# Altium schematic symbol library Devices.SchLib: 22 symbols
Pins are listed as number, name and electrical type; pins without a type are passive.

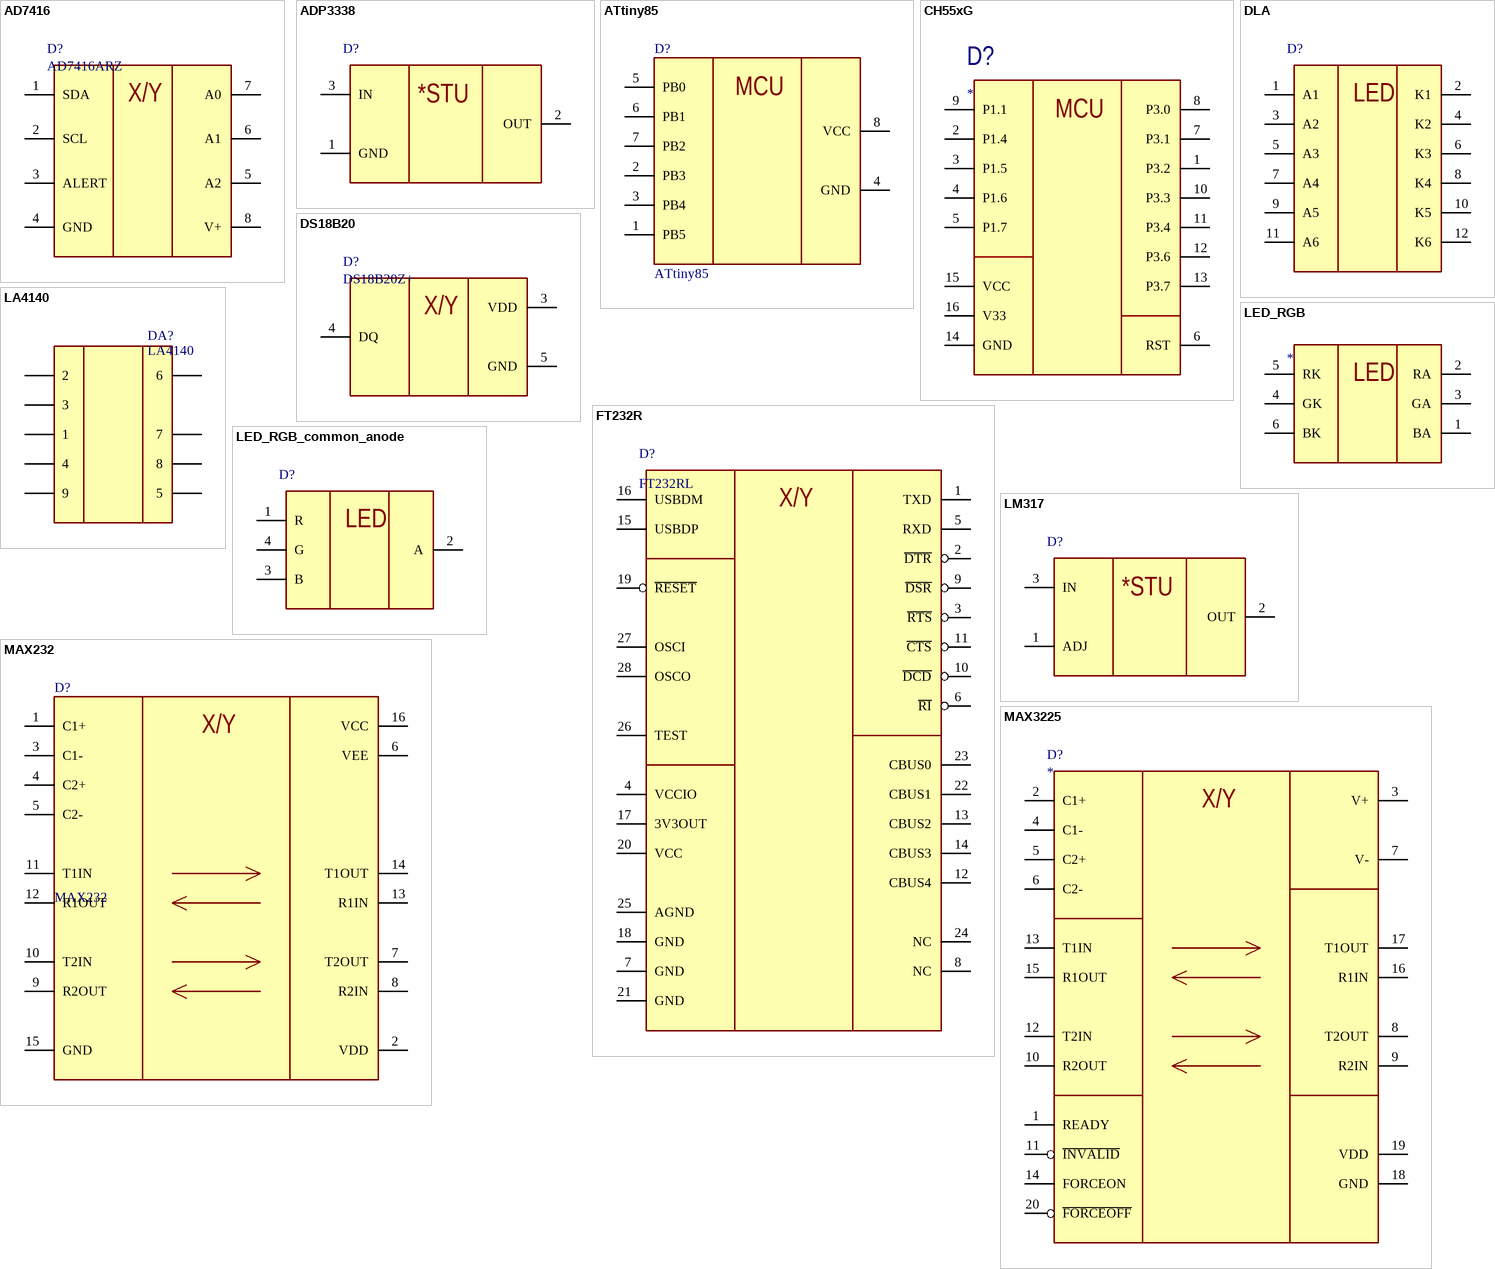
[diagram p0: symbols AD7416 to MAX3225]

## AD7416
designator D?, comment AD7416ARZ
10-Bit Digital Temperature Sensor; Manufacturer: Analog Devices; ComponentLink1Description: Datasheet; ComponentLink1URL: *
footprint SO8_M (SOIC, 8-Leads, Body 4.9x3.9mm, Pitch 1.27mm, IPC Low Density)
pins: 1 SDA "Serial data", 2 SCL "Serial clock", 3 ALERT "Overtemperature alert", 4 GND (power) "Ground", 5 A2 "Address select", 6 A1 "Address select", 7 A0 "Address select", 8 V+ "Power"
text: X/Y

## ADP3338
designator D?, comment ADP3338AKC-3.3-RL7  (value not drawn)
High Accuracy, Ultralow IQ, 1 A, anyCAP® Low Dropout Regulator; Manufacturer: Analog Devices; ComponentLink1Description: Datasheet; ComponentLink1URL: *
footprint SOT223_M (SOT223, 4-Leads, Body 6.5x3.5mm, Pitch 2.3mm, Lead Span 7mm, IPC Low Density)
pins: 1 GND (power) "Ground", 2 OUT (power) "Regulator output", 3 IN (power) "Regulator input"
text: *STU

## ATtiny85
designator D?
Low Power tinyAVR® 8-Bit Microcontroller, 8K Flash Memory, 20MHz; Manufacturer: Atmel; ComponentLink1Description: Datasheet; ComponentLink1URL: *
footprint SO8_M (SOIC, 8-Leads, Body 4.9x3.9mm, Pitch 1.27mm, IPC Low Density)
footprint SOP-8 (2.54 mm) (SOP; 8 Leads; Row Spacing 7.62 mm; Pitch 2.54 mm)
pins: 1 PB5, 2 PB3, 3 PB4, 4 GND (power), 5 PB0, 6 PB1, 7 PB2, 8 VCC (power)
text: MCU

## CH55xG
designator D?
8-bit USB microcontroller; Manufacturer: WCH(Jiangsu Qin Heng); Datasheet: *
footprint SO-16 _150mil
pins: 1 P3.2, 2 P1.4, 3 P1.5, 4 P1.6, 5 P1.7, 6 RST, 7 P3.1, 8 P3.0, 9 P1.1, 10 P3.3, 11 P3.4, 12 P3.6, 13 P3.7, 14 GND (power), 15 VCC (power), 16 V33 (power)
text: MCU

## DLA
designator D?  (value not drawn)
20mm BIG LAMP; Manufacturer: Kingbright; ComponentLink1Description: Datasheet; ComponentLink1URL: *
footprint DLA/6GD (20mm BIG LAMP)
footprint DLA/6ID (20mm BIG LAMP)
footprint DLA/6YD (20mm BIG LAMP)
pins: 1 A1 "Anode 1", 2 K1 "Cathode 1", 3 A2 "Anode 2", 4 K2 "Cathode 2", 5 A3 "Anode 3", 6 K3 "Cathode 3", 7 A4 "Anode 4", 8 K4 "Cathode 4", 9 A5 "Anode 5", 10 K5 "Cathode 5", 11 A6 "Anode 6", 12 K6 "Cathode 6"
text: LED

## DS18B20
designator D?, comment DS18B20Z+
Programmable Resolution 1-Wire Digital Thermometer; Manufacturer: Maxim Integrated; ComponentLink1Description: Datasheet; ComponentLink1URL: *
footprint SO8_M (SOIC, 8-Leads, Body 4.9x3.9mm, Pitch 1.27mm, IPC Low Density)
pins: 3 VDD "Power", 4 DQ "Data In/Out", 5 GND (power) "Ground"
text: X/Y

## FT232R
designator D?, comment FT232RL
USB UART Asynchronous Serial Data Transfer Chip, SSOP-28, Tape and Reel; Manufacturer: FTDI; ComponentLink1Description: Datasheet; ComponentLink1URL: *
footprint SSOP-28_M (SOP, 28-Leads, Body 10.2x5.3mm, Pitch 0.65mm, IPC Low Density)
pins: 1 TXD, 2 ~{DTR}, 3 ~{RTS}, 4 VCCIO (power), 5 RXD, 6 ~{RI}, 7 GND (power), 8 NC, 9 ~{DSR}, 10 ~{DCD}, 11 ~{CTS}, 12 CBUS4, 13 CBUS2, 14 CBUS3, 15 USBDP, 16 USBDM, 17 3V3OUT (power), 18 GND (power), 19 ~{RESET}, 20 VCC (power), 21 GND (power), 22 CBUS1, 23 CBUS0, 24 NC, 25 AGND (power), 26 TEST, 27 OSCI, 28 OSCO
text: X/Y

## LA4140
designator DA?
0,5 W AF Amplifier; Manufacturer: *; ComponentLink1Description: Datasheet; ComponentLink1URL: *
footprint SIP9 (TO, Thru-Hole, Vertical, Heatsink Mounted; 9 In-Line Leads; Pitch 2.54 mm)
pins: 1, 2, 3, 4, 5 (power), 6, 7 (power), 8, 9

## LED_RGB
designator D?
Surface mount smd LED; Manufacturer: *; ComponentLink1Description: Datasheet; ComponentLink1URL: *
footprint smd_50x50 (Footprint smd50x50)
pins: 1 BA "Anode blue LED", 2 RA "Anode red LED", 3 GA "Anode green LED", 4 GK "Cathode green LED", 5 RK "Cathode red LED", 6 BK "Cathode blue LED"
text: LED

## LED_RGB_common_anode
designator D?  (value not drawn)
Surface mount smd LED with common anode; Manufacturer: *; ComponentLink1Description: Datasheet; ComponentLink1URL: *
footprint smd_3.5x2.8
pins: 1 R "Cathode red LED", 2 A "Anode", 3 B "Cathode blue LED", 4 G "Cathode green LED"
text: LED

## LM317
designator D?  (value not drawn)
3-Terminal Adjustable Regulator; Manufacturer: *; ComponentLink1Description: Datasheet; ComponentLink1URL: *
footprint SOT223_M (SOT223, 4-Leads, Body 6.5x3.5mm, Pitch 2.3mm, Lead Span 7mm, IPC Low Density)
pins: 1 ADJ "Output voltage adjustment pin", 2 OUT (power) "Regulator output", 3 IN (power) "Regulator input"
text: *STU

## MAX232
designator D?
+5V Powered RS-232 Driver/Receiver; Manufacturer: *; ComponentLink1Description: Datasheet; ComponentLink1URL: *
footprint SOP-16 (2.54 mm) (SOP; 16 Leads; Row Spacing 7.62 mm; Pitch 2.54 mm)
pins: 1 C1+, 2 VDD (power), 3 C1-, 4 C2+, 5 C2-, 6 VEE (power), 7 T2OUT, 8 R2IN, 9 R2OUT, 10 T2IN, 11 T1IN, 12 R1OUT, 13 R1IN, 14 T1OUT, 15 GND (power), 16 VCC (power)
text: X/Y

## MAX3225
designator D?
±15kV ESD-Protected, 1µA, 1Mbps, 3.0V to 5.5V,  RS-232 Transceivers with AutoShutdown Plus; Manufacturer: Maxim Integrated; ComponentLink1Description: Datasheet; ComponentLink1URL: *
footprint TSSOP-20 (TSSOP, Plastic; 20 Leads; Body Width 5.3 mm; Pitch 0.65 mm)
pins: 1 READY, 2 C1+, 3 V+ (power), 4 C1-, 5 C2+, 6 C2-, 7 V- (power), 8 T2OUT, 9 R2IN, 10 R2OUT, 11 ~{INVALID}, 12 T2IN, 13 T1IN, 14 FORCEON, 15 R1OUT, 16 R1IN, 17 T1OUT, 18 GND (power), 19 VDD (power), 20 ~{FORCEOFF}
text: X/Y

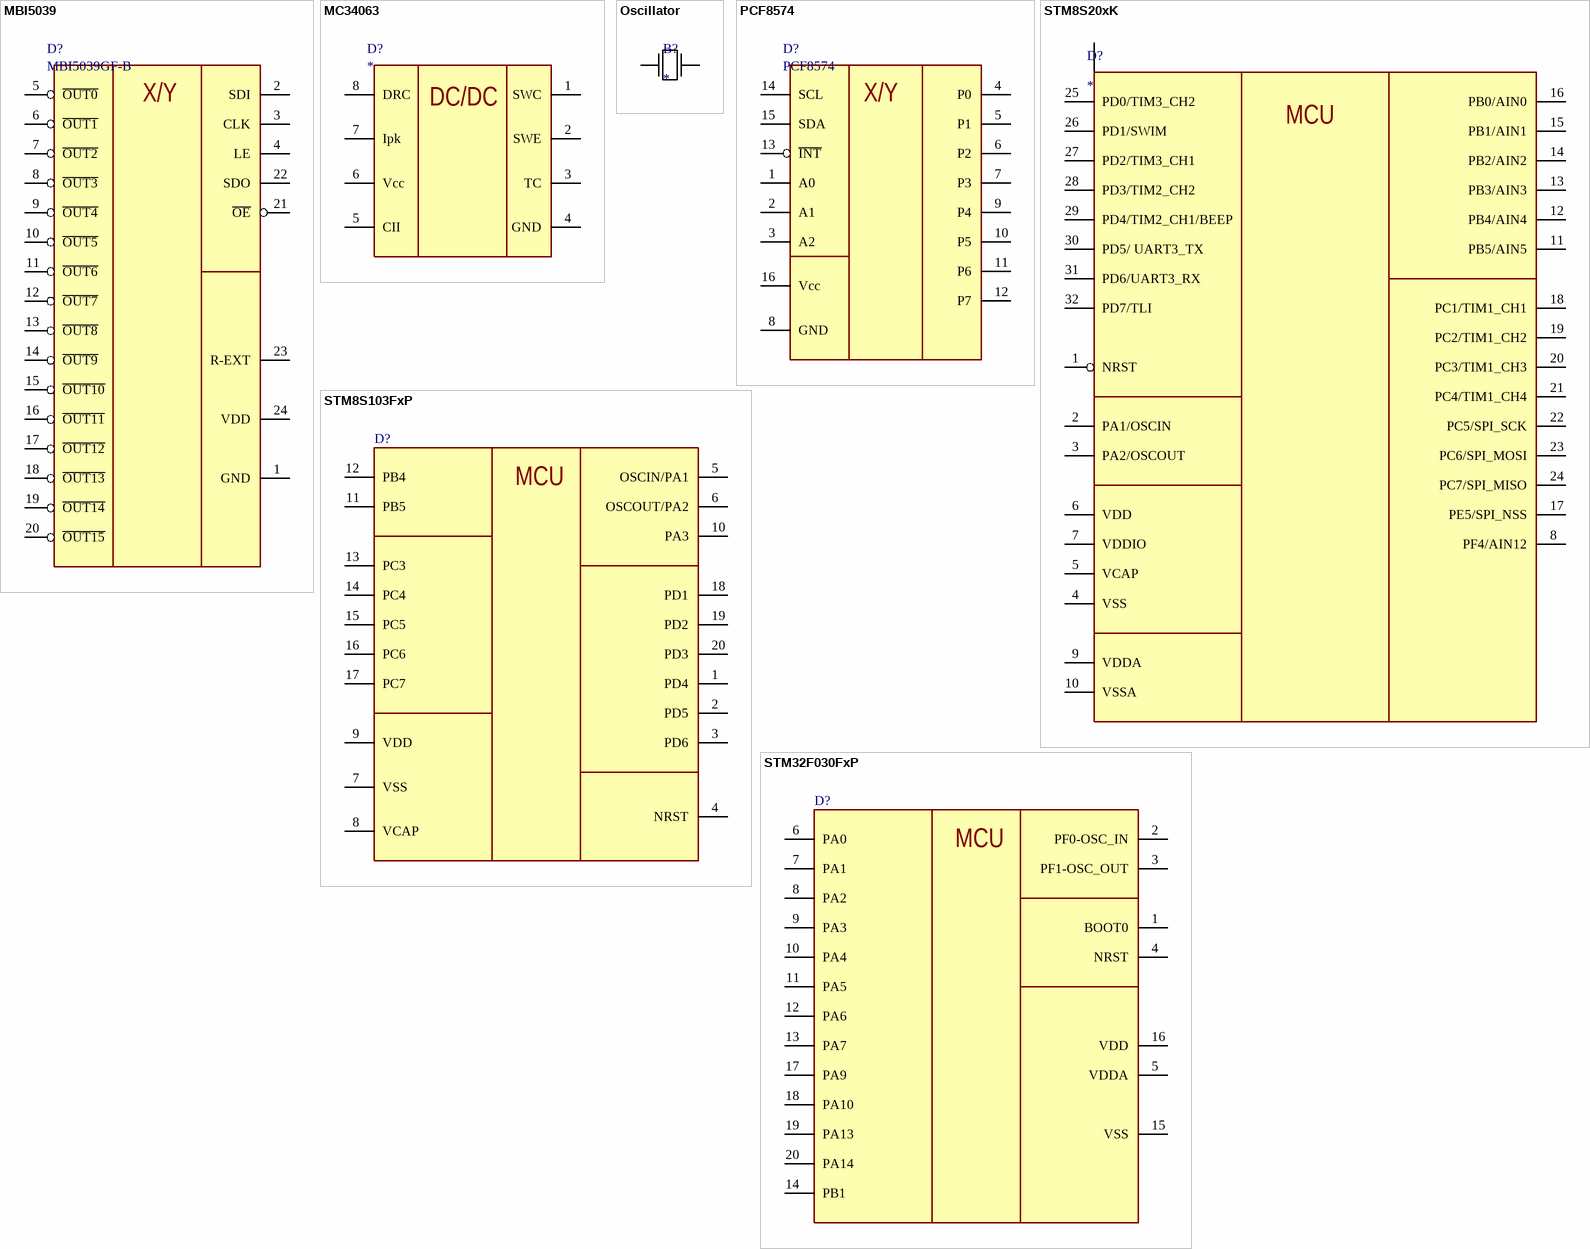
[diagram p1: symbols MBI5039 to STM32F030FxP]

## MBI5039
designator D?, comment MBI5039GF-B
16-Channel Constant Current LED Sink Driver with Silent Error Detection and Current Gain; Manufacturer: Macroblock; ComponentLink1Description: Datasheet; ComponentLink1URL: *
footprint SOP24L (SOP, Plastic; 24 Leads; Body Width 6 mm; Pitch 1 mm)
pins: 1 GND (power) "Ground", 2 SDI "Serial-data input to the shift register", 3 CLK "Clock input terminal used to shift data on rising edge and carries command   information when LE is asserted", 4 LE "Data strobe terminal and asserting command with adequate CLK pulses", 5 ~{OUT0} "Constant current output terminal 0", 6 ~{OUT1} "Constant current output terminal 1", 7 ~{OUT2} "Constant current output terminal 2", 8 ~{OUT3} "Constant current output terminal 3", 9 ~{OUT4} "Constant current output terminal 4", 10 ~{OUT5} "Constant current output terminal 5", 11 ~{OUT6} "Constant current output terminal 6", 12 ~{OUT7} "Constant current output terminal 7", 13 ~{OUT8} "Constant current output terminal 8", 14 ~{OUT9} "Constant current output terminal 9", 15 ~{OUT10} "Constant current output terminal 10", 16 ~{OUT11} "Constant current output terminal 11", 17 ~{OUT12} "Constant current output terminal 12", 18 ~{OUT13} "Constant current output terminal 13", 19 ~{OUT14} "Constant current output terminal 14", 20 ~{OUT15} "Constant current output terminal 15", 21 ~{OE} "Enable output drivers to sink current", 22 SDO "Serial-data output to the SDI of the following driver IC", 23 R-EXT "Input terminal used for connecting an external resistor in order to set up the current   level of all output ports", 24 VDD (power) "Supply"
text: X/Y

## MC34063
designator D?
DC-DC Converter control circuits; Manufacturer: *; ComponentLink1Description: Datasheet; ComponentLink1URL: *
footprint SO8_M (SOIC, 8-Leads, Body 4.9x3.9mm, Pitch 1.27mm, IPC Low Density)
pins: 1 SWC "Switch collector", 2 SWE "Switch emitter", 3 TC "Timing capacitor", 4 GND "Ground", 5 CII "Comparator inverting input", 6 Vcc "Supply", 7 Ipk "Ipk sense", 8 DRC "Drive collector"
text: DC/DC

## Oscillator
designator B?
Crystal oscillator; Manufacturer: *; ComponentLink1Description: Datasheet; ComponentLink1URL: *
footprint CSM-7 (Quartz Crystal, SM; 2 Leads; Body 11.4 x 4.8 x 5 mm (LxWxH))
footprint KX-3H (Oscillator; 2 Leads)
pins: 1 OSCIN, 2 OSCOUT

## PCF8574
designator D?
Remote 8-bit I/O expander for I2C bus; Manufacturer: *; ComponentLink1Description: Datasheet; ComponentLink1URL: *
footprint SOP-16 (2.54 mm) (SOP; 16 Leads; Row Spacing 7.62 mm; Pitch 2.54 mm)
footprint SO-16
pins: 1 A0 "Address Bit 0", 2 A1 "Address Bit 1", 3 A2 "Address Bit 2", 4 P0 "Port 0", 5 P1 "Port 1", 6 P2 "Port 2", 7 P3 "Port 3", 8 GND (power) "Ground", 9 P4 "Port 4", 10 P5 "Port 5", 11 P6 "Port 6", 12 P7 "Port 7", 13 ~{INT} "Open-Drain Interrupt Output", 14 SCL "Serial clock", 15 SDA "Serial data", 16 Vcc (power) "Supply"
text: X/Y

## STM8S20xK
designator D?
Performance line, 24 MHz STM8S 8-bit MCU, up to 128 KB Flash,   integrated EEPROM, 10-bit ADC, timers, 2 UARTs, SPI, I²C, CAN; Manufacturer: STMicroelectronics; ComponentLink1Description: Datasheet; ComponentLink1URL: *
footprint TQFP32_M (Thin QFP, 32-Leads, Body 7x7mm, Pitch 0.8mm, IPC Low Density)
pins: 1 NRST "Reset pin", 2 PA1/OSCIN "Port A1, Resonator/crystal in", 3 PA2/OSCOUT "Port A2, Resonator/crystal out", 4 VSS (power) "Digital ground", 5 VCAP (power) "1.8 V regulator capacitor", 6 VDD (power) "Digital power supply", 7 VDDIO (power) "I/O power supply", 8 PF4/AIN12 "Port F4, Analog input 12", 9 VDDA (power) "Analog power supply", 10 VSSA (power) "Analog ground", 11 PB5/AIN5 "Port B5, analog input 5", 12 PB4/AIN4 "Port B4, analog input 4", 13 PB3/AIN3 "Port B3, analog input 3", 14 PB2/AIN2 "Port B2, analog input 2", 15 PB1/AIN1 "Port B1, analog input 1", 16 PB0/AIN0 "Port B0, analog input 0", 17 PE5/SPI_NSS "Port E5, SPI master/slave select", 18 PC1/TIM1_CH1 "Port C1, Timer 1 - channel 1", 19 PC2/TIM1_CH2 "Port C2, Timer 1 - channel 2", 20 PC3/TIM1_CH3 "Port C3, Timer 1 - channel 3", 21 PC4/TIM1_CH4 "Port C4, Timer 1 - channel 4", 22 PC5/SPI_SCK "Port C5, SPI clock", 23 PC6/SPI_MOSI "Port C6, SPI master out/slave in", 24 PC7/SPI_MISO "Port C7, SPI master in/slave out", 25 PD0/TIM3_CH2 "Port D0, Timer 3 - channel 2", 26 PD1/SWIM "Port D1, SWIM data interface", 27 PD2/TIM3_CH1 "Port D2, Timer 3 - channel 1", 28 PD3/TIM2_CH2 "Port D3, Timer 2 - channel 2", 29 PD4/TIM2_CH1/BEEP "Port D4, Timer 2 - channel 1, BEEP output", 30 PD5/ UART3_TX "Port D5, UART3 data transmit", 31 PD6/UART3_RX "Port D6, UART3 data receive", 32 PD7/TLI "Port D7, Top level interrupt"
text: MCU

## STM8S103FxP
designator D?
Access line, 16 MHz STM8S 8-bit MCU, up to 8 Kbytes Flash,   data EEPROM,10-bit ADC, 3 timers, UART, SPI, I²C; Manufacturer: STMicroelectronics; ComponentLink1Description: Datasheet; ComponentLink1URL: *
footprint TSSOP-20 (TSSOP, Plastic; 20 Leads; Body Width 5.3 mm; Pitch 0.65 mm)
pins: 1 PD4, 2 PD5, 3 PD6, 4 NRST, 5 OSCIN/PA1, 6 OSCOUT/PA2, 7 VSS (power), 8 VCAP, 9 VDD (power), 10 PA3, 11 PB5, 12 PB4, 13 PC3, 14 PC4, 15 PC5, 16 PC6, 17 PC7, 18 PD1, 19 PD2, 20 PD3
text: MCU

## STM32F030FxP
designator D?
Value-line ARM®-based 32-bit MCU with up to 256-KB Flash,   timers, ADC, communication interfaces, 2.4-3.6 V operation; Manufacturer: STMicroelectronics; ComponentLink1Description: Datasheet; ComponentLink1URL: *
footprint TSSOP-20 (TSSOP, Plastic; 20 Leads; Body Width 5.3 mm; Pitch 0.65 mm)
pins: 1 BOOT0, 2 PF0-OSC_IN, 3 PF1-OSC_OUT, 4 NRST, 5 VDDA (power), 6 PA0, 7 PA1, 8 PA2, 9 PA3, 10 PA4, 11 PA5, 12 PA6, 13 PA7, 14 PB1, 15 VSS (power), 16 VDD (power), 17 PA9, 18 PA10, 19 PA13, 20 PA14
text: MCU

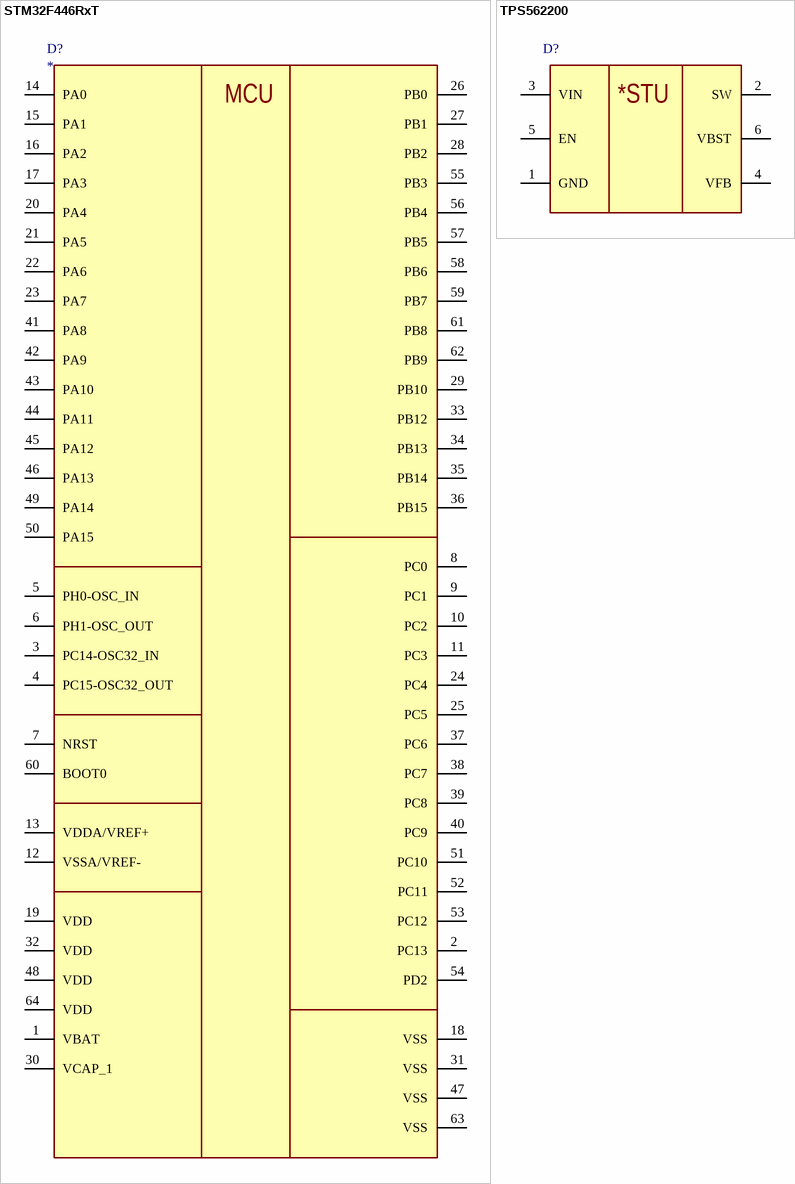
[diagram p2: symbols STM32F446RxT to TPS562200]

## STM32F446RxT
designator D?
High-performance foundation line, ARM Cortex-M4 core with DSP and FPU, 256 Kbytes Flash, 180 MHz CPU, ART Accelerator, Dual QSPI; Manufacturer: STMicroelectronics; ComponentLink1Description: Datasheet; ComponentLink1URL: *
footprint LQFP64
pins: 1 VBAT (power), 2 PC13, 3 PC14-OSC32_IN, 4 PC15-OSC32_OUT, 5 PH0-OSC_IN, 6 PH1-OSC_OUT, 7 NRST, 8 PC0, 9 PC1, 10 PC2, 11 PC3, 12 VSSA/VREF- (power), 13 VDDA/VREF+ (power), 14 PA0, 15 PA1, 16 PA2, 17 PA3, 18 VSS (power), 19 VDD (power), 20 PA4, 21 PA5, 22 PA6, 23 PA7, 24 PC4, 25 PC5, 26 PB0, 27 PB1, 28 PB2, 29 PB10, 30 VCAP_1, 31 VSS (power), 32 VDD (power), 33 PB12, 34 PB13, 35 PB14, 36 PB15, 37 PC6, 38 PC7, 39 PC8, 40 PC9, 41 PA8, 42 PA9, 43 PA10, 44 PA11, 45 PA12, 46 PA13, 47 VSS (power), 48 VDD (power), 49 PA14, 50 PA15, 51 PC10, 52 PC11, 53 PC12, 54 PD2, 55 PB3, 56 PB4, 57 PB5, 58 PB6, 59 PB7, 60 BOOT0, 61 PB8, 62 PB9, 63 VSS (power), 64 VDD (power)
text: MCU

## TPS562200
designator D?, comment TPS562200DDCT  (value not drawn)
4.5-V To 17-V Input, 2-A, 3-A Synchronous Step-Down Voltage Regulator; Manufacturer: Texas Instruments; ComponentLink1Description: Datasheet; ComponentLink1URL: *
footprint SOT23-6_M (SOT23, 6-Leads, Body 2.9x1.6mm, Pitch 0.95mm, Lead Span 2.7mm, IPC Low Density)
pins: 1 GND (power) "Ground pin Source terminal of low-side power NFET as well as the ground terminal for controller circuit", 2 SW "Switch node connection between high-side NFET and low-side NFET", 3 VIN (power) "Input voltage supply pin. The drain terminal of high-side power NFET", 4 VFB "Converter feedback input. Connect to output voltage with feedback resistor divider", 5 EN "Enable input control. Active high and must be pulled up to enable the device", 6 VBST "Supply input for the high-side NFET gate drive circuit"
text: *STU